# EAGLE library part 80C32 (library 8032mini)
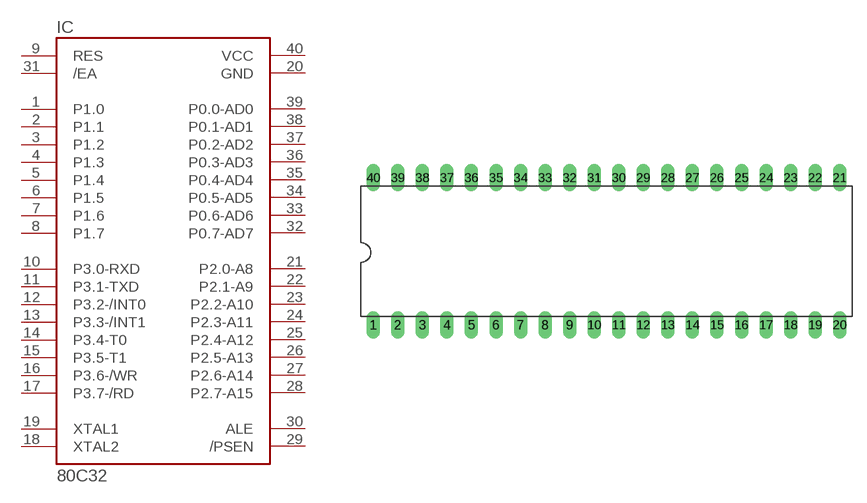
[diagram p0: symbol with the pads of DIL40; footprint DIL40]

Designator prefix IC

## 80C32  [DIL40]
1  P1.0
2  P1.1
3  P1.2
4  P1.3
5  P1.4
6  P1.5
7  P1.6
8  P1.7
9  RES  in
10  P3.0-RXD
11  P3.1-TXD
12  P3.2-/INT0
13  P3.3-/INT1
14  P3.4-T0
15  P3.5-T1
16  P3.6-/WR
17  P3.7-/RD
18  XTAL2  in
19  XTAL1  in
20  GND  pwr
21  P2.0-A8
22  P2.1-A9
23  P2.2-A10
24  P2.3-A11
25  P2.4-A12
26  P2.5-A13
27  P2.6-A14
28  P2.7-A15
29  /PSEN  out
30  ALE  out
31  /EA  in
32  P0.7-AD7
33  P0.6-AD6
34  P0.5-AD5
35  P0.4-AD4
36  P0.3-AD3
37  P0.2-AD2
38  P0.1-AD1
39  P0.0-AD0
40  VCC  pwr

## Footprint DIL40 (pad centres in mm)
drill 0.61 pad 1.422 long: 1 -24.13,-7.62; 2 -21.59,-7.62; 3 -19.05,-7.62; 4 -16.51,-7.62; 5 -13.97,-7.62; 6 -11.43,-7.62; 7 -8.89,-7.62; 8 -6.35,-7.62; 9 -3.81,-7.62; 10 -1.27,-7.62; 11 1.27,-7.62; 12 3.81,-7.62; 13 6.35,-7.62; 14 8.89,-7.62; 15 11.43,-7.62; 16 13.97,-7.62; 17 16.51,-7.62; 18 19.05,-7.62; 19 21.59,-7.62; 20 24.13,-7.62; 21 24.13,7.62; 22 21.59,7.62; 23 19.05,7.62; 24 16.51,7.62; 25 13.97,7.62; 26 11.43,7.62; 27 8.89,7.62; 28 6.35,7.62; 29 3.81,7.62; 30 1.27,7.62; 31 -1.27,7.62; 32 -3.81,7.62; 33 -6.35,7.62; 34 -8.89,7.62; 35 -11.43,7.62; 36 -13.97,7.62; 37 -16.51,7.62; 38 -19.05,7.62; 39 -21.59,7.62; 40 -24.13,7.62